# Altium footprint library 2020-11-26_03-36-27.PcbLib: 3 footprints
Each footprint in its own frame and in the unit in brackets; x right, y up, seen from the top. Pads: shape width x height; smd on the part's side, far side on the other; paste and mask are expansions set on the pad; w line width, h text height; cw(c..) or ccw(c..) is an arc to the next point about the centre after c.
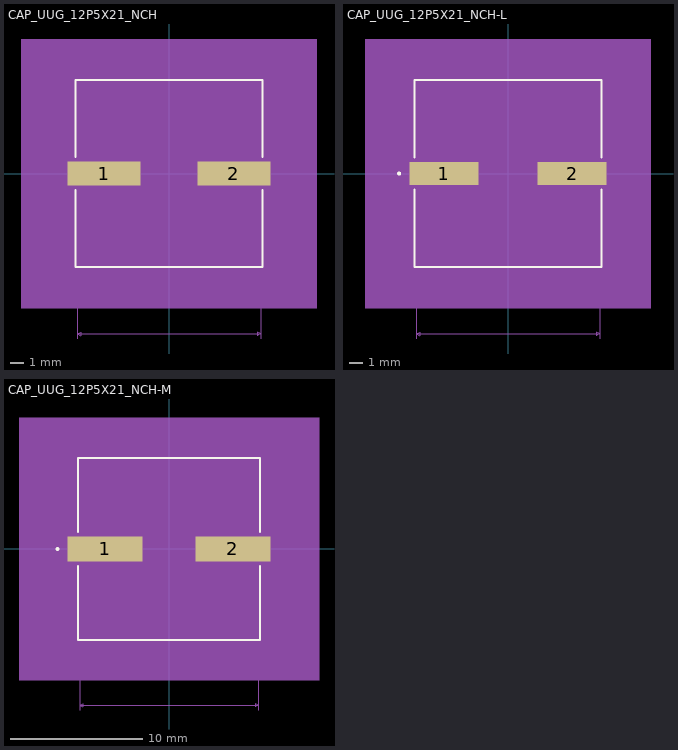
[diagram p0: the footprints below, top view; thin cyan lines are the x and y axes]

## CAP_UUG_12P5X21_NCH [mil]
pads (2):
  rect 213x71 smd paste+0 mask+0: 1(-189,0) 2(189,0)
Top Overlay:
  lines w6: -272.5,-48.6 -272.5,-272.5 272.5,-272.5 272.5,-48.6 ; -272.5,48.6 -272.5,272.5 272.5,272.5 272.5,48.6
Mechanical 5:
  region: 430.5,-392.5 -430.5,-392.5 -430.5,392.5 430.5,392.5
Mechanical 7:
  lines w1: -382.5,-267.5 -267.5,-267.5 -267.5,-482.5 ; -382.5,267.5 -267.5,267.5 ; -275.5,-382.5 -275.5,-45.5 ; -275.5,45.5 -275.5,382.5 ; -78.5,-382.5 -78.5,-25.5 ; 267.5,-482.5 267.5,-267.5 ; 275.5,45.5 275.5,382.5 ; 305.5,-27.5 410.5,-27.5 ; 305.5,27.5 410.5,27.5 ; 395.5,-77.5 395.5,-27.5 ; 395.5,77.5 395.5,27.5 ; -367.5,-267.5 -367.5,267.5 ; -367.5,-267.5 -372.5,-257.5 -362.5,-257.5 -367.5,-267.5 ; -367.5,267.5 -372.5,257.5 -362.5,257.5 -367.5,267.5 ; -275.5,-367.5 -78.5,-367.5 ; -275.5,-367.5 -265.5,-362.5 -265.5,-372.5 -275.5,-367.5 ; -275.5,367.5 275.5,367.5 ; -275.5,367.5 -265.5,372.5 -265.5,362.5 -275.5,367.5 ; -267.5,-467.5 267.5,-467.5 ; -267.5,-467.5 -257.5,-462.5 -257.5,-472.5 -267.5,-467.5 ; -78.5,-367.5 -88.5,-362.5 -88.5,-372.5 -78.5,-367.5 ; 267.5,-467.5 257.5,-462.5 257.5,-472.5 267.5,-467.5 ; 275.5,367.5 265.5,372.5 265.5,362.5 275.5,367.5 ; 395.5,-27.5 390.5,-37.5 400.5,-37.5 395.5,-27.5 ; 395.5,27.5 390.5,37.5 400.5,37.5 395.5,27.5
  text "Default Padstyle: RX213Y71D0T" at -362.5,-439.5 h50
  text "Alternate 1 Padstyle: OX60Y90D30P" at -412.5,-539.5 h50
  text "Alternate 2 Padstyle: OX90Y60D30P" at -412.5,-639.5 h50
  text "0.055in/1.397mm" at 415.5,-12.5 h25
  text "0.551in/13.995mm" at -100,387.5 h25
  text "0.535in/13.589mm" at -587.5,-12.5 h25
  text "0.197in/5.004mm" at -270.75,-412.5 h25
  text "0.535in/13.589mm" at -100,-512.5 h25
Mechanical 13:
  circle w0: c-247.5,0 r0
  lines w1: -267.5,-133.75 -133.75,-267.5 ; -267.5,133.75 -133.75,267.5 ; -267.5,-267.5 267.5,-267.5 267.5,267.5 -267.5,267.5 -267.5,-267.5
Mechanical 15:
  region: -277.5,-45.5 -305.5,-45.5 -305.5,45.5 -277.5,45.5 -277.5,277.5 277.5,277.5 277.5,45.5 305.5,45.5 305.5,-45.5 277.5,-45.5 277.5,-277.5 -277.5,-277.5
  lines w6: -305.5,-45.5 -305.5,45.5 -277.5,45.5 -277.5,277.5 277.5,277.5 277.5,45.5 305.5,45.5 305.5,-45.5 277.5,-45.5 277.5,-277.5 -277.5,-277.5 -277.5,-45.5 -305.5,-45.5
3D body: height 10, standoff 0, extent 0,0 10,10

## CAP_UUG_12P5X21_NCH-L [mil]
pads (2):
  rect 201x67 smd paste+0 mask+0: 1(-187,0) 2(187,0)
Top Overlay:
  circle w6: c-317.5,0 r3
  lines w6: -272.5,-46.6 -272.5,-272.5 272.5,-272.5 272.5,-46.6 ; -272.5,46.6 -272.5,272.5 272.5,272.5 272.5,46.6
Mechanical 5:
  region: 416.5,-392.5 -416.5,-392.5 -416.5,392.5 416.5,392.5
Mechanical 7:
  lines w1: -382.5,-267.5 -267.5,-267.5 -267.5,-482.5 ; -382.5,267.5 -267.5,267.5 ; -275.5,-382.5 -275.5,-43.5 ; -275.5,43.5 -275.5,382.5 ; -78.5,-382.5 -78.5,-23.5 ; 267.5,-482.5 267.5,-267.5 ; 275.5,43.5 275.5,382.5 ; 297.5,-27.5 402.5,-27.5 ; 297.5,27.5 402.5,27.5 ; 387.5,-77.5 387.5,-27.5 ; 387.5,77.5 387.5,27.5 ; -367.5,-267.5 -367.5,267.5 ; -367.5,-267.5 -372.5,-257.5 -362.5,-257.5 -367.5,-267.5 ; -367.5,267.5 -372.5,257.5 -362.5,257.5 -367.5,267.5 ; -275.5,-367.5 -78.5,-367.5 ; -275.5,-367.5 -265.5,-362.5 -265.5,-372.5 -275.5,-367.5 ; -275.5,367.5 275.5,367.5 ; -275.5,367.5 -265.5,372.5 -265.5,362.5 -275.5,367.5 ; -267.5,-467.5 267.5,-467.5 ; -267.5,-467.5 -257.5,-462.5 -257.5,-472.5 -267.5,-467.5 ; -78.5,-367.5 -88.5,-362.5 -88.5,-372.5 -78.5,-367.5 ; 267.5,-467.5 257.5,-462.5 257.5,-472.5 267.5,-467.5 ; 275.5,367.5 265.5,372.5 265.5,362.5 275.5,367.5 ; 387.5,-27.5 382.5,-37.5 392.5,-37.5 387.5,-27.5 ; 387.5,27.5 382.5,37.5 392.5,37.5 387.5,27.5
  text "Default Padstyle: RX201Y67D0T" at -362.5,-441.5 h50
  text "Alternate 1 Padstyle: OX60Y90D30P" at -412.5,-541.5 h50
  text "Alternate 2 Padstyle: OX90Y60D30P" at -412.5,-641.5 h50
  text "0.055in/1.397mm" at 407.5,-12.5 h25
  text "0.551in/13.995mm" at -100,387.5 h25
  text "0.535in/13.589mm" at -587.5,-12.5 h25
  text "0.197in/5.004mm" at -270.75,-412.5 h25
  text "0.535in/13.589mm" at -100,-512.5 h25
Mechanical 13:
  circle w0: c-247.5,0 r3
  lines w1: -267.5,-133.75 -133.75,-267.5 ; -267.5,133.75 -133.75,267.5 ; -267.5,-267.5 267.5,-267.5 267.5,267.5 -267.5,267.5 -267.5,-267.5
Mechanical 15:
  region: -271.5,-37.5 -291.5,-37.5 -291.5,37.5 -271.5,37.5 -271.5,271.5 271.5,271.5 271.5,37.5 291.5,37.5 291.5,-37.5 271.5,-37.5 271.5,-271.5 -271.5,-271.5
  lines w6: -291.5,-37.5 -291.5,37.5 -271.5,37.5 -271.5,271.5 271.5,271.5 271.5,37.5 291.5,37.5 291.5,-37.5 271.5,-37.5 271.5,-271.5 -271.5,-271.5 -271.5,-37.5 -291.5,-37.5
3D body: height 10, standoff 0, extent 0,0 10,10

## CAP_UUG_12P5X21_NCH-M [mil]
pads (2):
  rect 225x75 smd paste+0 mask+0: 1(-191,0) 2(191,0)
Top Overlay:
  circle w6: c-333.5,0 r3
  lines w6: -272.5,-50.6 -272.5,-272.5 272.5,-272.5 272.5,-50.6 ; -272.5,50.6 -272.5,272.5 272.5,272.5 272.5,50.6
Mechanical 5:
  region: 448.5,-392.5 -448.5,-392.5 -448.5,392.5 448.5,392.5
Mechanical 7:
  lines w1: -382.5,-267.5 -267.5,-267.5 -267.5,-482.5 ; -382.5,267.5 -267.5,267.5 ; -275.5,-382.5 -275.5,-47.5 ; -275.5,47.5 -275.5,382.5 ; -78.5,-382.5 -78.5,-27.5 ; 267.5,-482.5 267.5,-267.5 ; 275.5,47.5 275.5,382.5 ; 313.5,-27.5 418.5,-27.5 ; 313.5,27.5 418.5,27.5 ; 403.5,-77.5 403.5,-27.5 ; 403.5,77.5 403.5,27.5 ; -367.5,-267.5 -367.5,267.5 ; -367.5,-267.5 -372.5,-257.5 -362.5,-257.5 -367.5,-267.5 ; -367.5,267.5 -372.5,257.5 -362.5,257.5 -367.5,267.5 ; -275.5,-367.5 -78.5,-367.5 ; -275.5,-367.5 -265.5,-362.5 -265.5,-372.5 -275.5,-367.5 ; -275.5,367.5 275.5,367.5 ; -275.5,367.5 -265.5,372.5 -265.5,362.5 -275.5,367.5 ; -267.5,-467.5 267.5,-467.5 ; -267.5,-467.5 -257.5,-462.5 -257.5,-472.5 -267.5,-467.5 ; -78.5,-367.5 -88.5,-362.5 -88.5,-372.5 -78.5,-367.5 ; 267.5,-467.5 257.5,-462.5 257.5,-472.5 267.5,-467.5 ; 275.5,367.5 265.5,372.5 265.5,362.5 275.5,367.5 ; 403.5,-27.5 398.5,-37.5 408.5,-37.5 403.5,-27.5 ; 403.5,27.5 398.5,37.5 408.5,37.5 403.5,27.5
  text "Default Padstyle: RX225Y75D0T" at -362.5,-437.5 h50
  text "Alternate 1 Padstyle: OX60Y90D30P" at -412.5,-537.5 h50
  text "Alternate 2 Padstyle: OX90Y60D30P" at -412.5,-637.5 h50
  text "0.055in/1.397mm" at 423.5,-12.5 h25
  text "0.551in/13.995mm" at -100,387.5 h25
  text "0.535in/13.589mm" at -587.5,-12.5 h25
  text "0.197in/5.004mm" at -270.75,-412.5 h25
  text "0.535in/13.589mm" at -100,-512.5 h25
Mechanical 13:
  circle w0: c-247.5,0 r3
  lines w1: -267.5,-133.75 -133.75,-267.5 ; -267.5,133.75 -133.75,267.5 ; -267.5,-267.5 267.5,-267.5 267.5,267.5 -267.5,267.5 -267.5,-267.5
Mechanical 15:
  region: -287.5,-57.5 -323.5,-57.5 -323.5,57.5 -287.5,57.5 -287.5,287.5 287.5,287.5 287.5,57.5 323.5,57.5 323.5,-57.5 287.5,-57.5 287.5,-287.5 -287.5,-287.5
  lines w6: -323.5,-57.5 -323.5,57.5 -287.5,57.5 -287.5,287.5 287.5,287.5 287.5,57.5 323.5,57.5 323.5,-57.5 287.5,-57.5 287.5,-287.5 -287.5,-287.5 -287.5,-57.5 -323.5,-57.5
3D body: height 10, standoff 0, extent 0,0 10,10